# EAGLE library part PINHD-2X22 (library apple_ii)
PIN HEADER
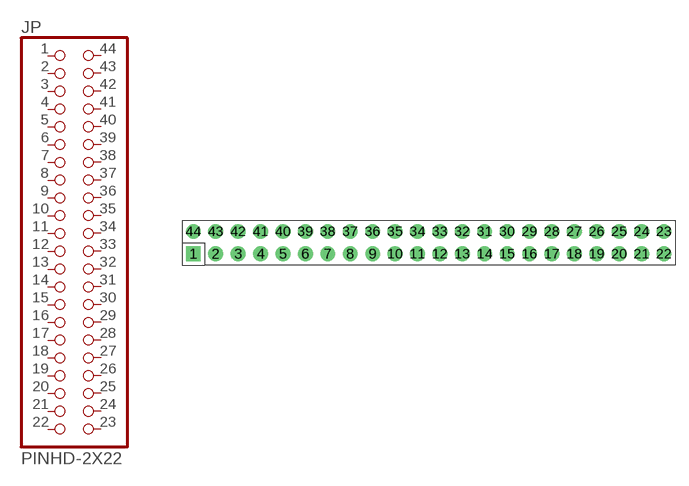
[diagram p5: symbol with the pads of 2X22; footprint 2X22]

Designator prefix JP

## PINHD-2X22  [2X22]
1  1  pas
2  2  pas
3  3  pas
4  4  pas
5  5  pas
6  6  pas
7  7  pas
8  8  pas
9  9  pas
10  10  pas
11  11  pas
12  12  pas
13  13  pas
14  14  pas
15  15  pas
16  16  pas
17  17  pas
18  18  pas
19  19  pas
20  20  pas
21  21  pas
22  22  pas
23  23  pas
24  24  pas
25  25  pas
26  26  pas
27  27  pas
28  28  pas
29  29  pas
30  30  pas
31  31  pas
32  32  pas
33  33  pas
34  34  pas
35  35  pas
36  36  pas
37  37  pas
38  38  pas
39  39  pas
40  40  pas
41  41  pas
42  42  pas
43  43  pas
44  44  pas

## Footprint 2X22 (pad centres in mm)
PIN HEADER
drill 1.016 pad 1.676 square: 1 -25.4,-1.27
drill 1.016 pad 1.676: 2 -22.86,-1.27; 3 -20.32,-1.27; 4 -17.78,-1.27; 5 -15.24,-1.27; 6 -12.7,-1.27; 7 -10.16,-1.27; 8 -7.62,-1.27; 9 -5.08,-1.27; 10 -2.54,-1.27; 11 0,-1.27; 12 2.54,-1.27; 13 5.08,-1.27; 14 7.62,-1.27; 15 10.16,-1.27; 16 12.7,-1.27; 17 15.24,-1.27; 18 17.78,-1.27; 19 20.32,-1.27; 20 22.86,-1.27; 21 25.4,-1.27; 22 27.94,-1.27; 23 27.94,1.27; 24 25.4,1.27; 25 22.86,1.27; 26 20.32,1.27; 27 17.78,1.27; 28 15.24,1.27; 29 12.7,1.27; 30 10.16,1.27; 31 7.62,1.27; 32 5.08,1.27; 33 2.54,1.27; 34 0,1.27; 35 -2.54,1.27; 36 -5.08,1.27; 37 -7.62,1.27; 38 -10.16,1.27; 39 -12.7,1.27; 40 -15.24,1.27; 41 -17.78,1.27; 42 -20.32,1.27; 43 -22.86,1.27; 44 -25.4,1.27